# EAGLE library part IRS21864S (library Gate_Drivers)
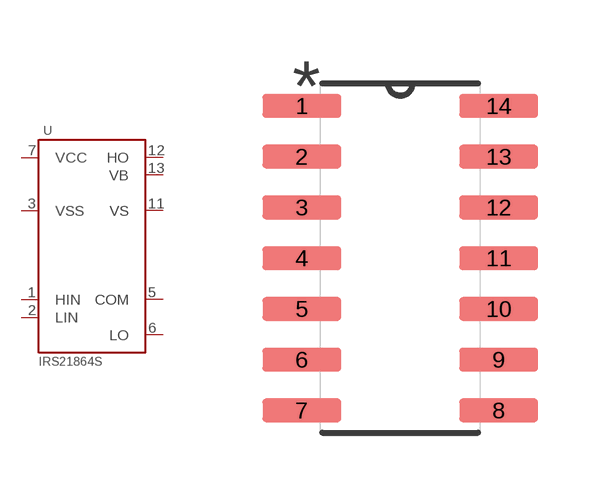
[diagram p2: symbol with the pads of SOIC-14; footprint SOIC-14]

Designator prefix U

## IRS21864S  [SOIC-14]
1  HIN  in
2  LIN  in
3  VSS  pwr
5  COM  pwr
6  LO
7  VCC  pwr
11  VS
12  HO
13  VB  pas

## Footprint SOIC-14 (pad centres in mm)
smd 1.981 x 0.6: 1 -2.464,3.81; 2 -2.464,2.54; 3 -2.464,1.27; 4 -2.464,0; 5 -2.464,-1.27; 6 -2.464,-2.54; 7 -2.464,-3.81; 8 2.464,-3.81; 9 2.464,-2.54; 10 2.464,-1.27; 11 2.464,0; 12 2.464,1.27; 13 2.464,2.54; 14 2.464,3.81